# Altium footprint library FILTER_1.PcbLib: 1 footprints
Each footprint in its own frame and in the unit in brackets; x right, y up, seen from the top. Pads: shape width x height; smd on the part's side, far side on the other; paste and mask are expansions set on the pad; w line width, h text height; cw(c..) or ccw(c..) is an arc to the next point about the centre after c.
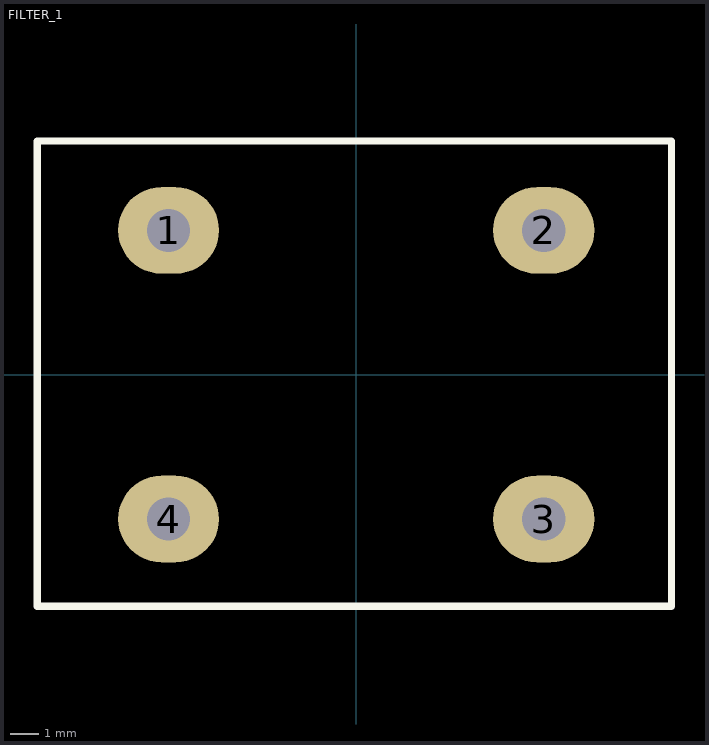
[diagram p0: the footprint, top view; thin cyan lines are the x and y axes]

## FILTER_1 [mm]
height 0.9
pads (4):
  oval 3.5x3 hole 1.5: 1(-6.5,5) 2(6.5,5) 3(6.5,-5) 4(-6.5,-5)
Top Overlay:
  lines w0.254: -11.05,-8.025 10.925,-8.025 10.925,8.1 -11.05,8.1 -11.05,-8.025
Top Assembly:
  lines w0.1: -11.1,-8.075 -11.1,8.125 10.95,8.125 10.95,-8.075 -11.1,-8.075
  text "'.Designator'" at -0.95,0.075 h0.7
3D body "UU10LF.STEP": height 24.48, standoff -1.5, extent -10.947,-8 10.847,8